# Altium schematic symbol library CRD25DA12N-FMC.SchLib: 141 symbols (part 3 of 5)
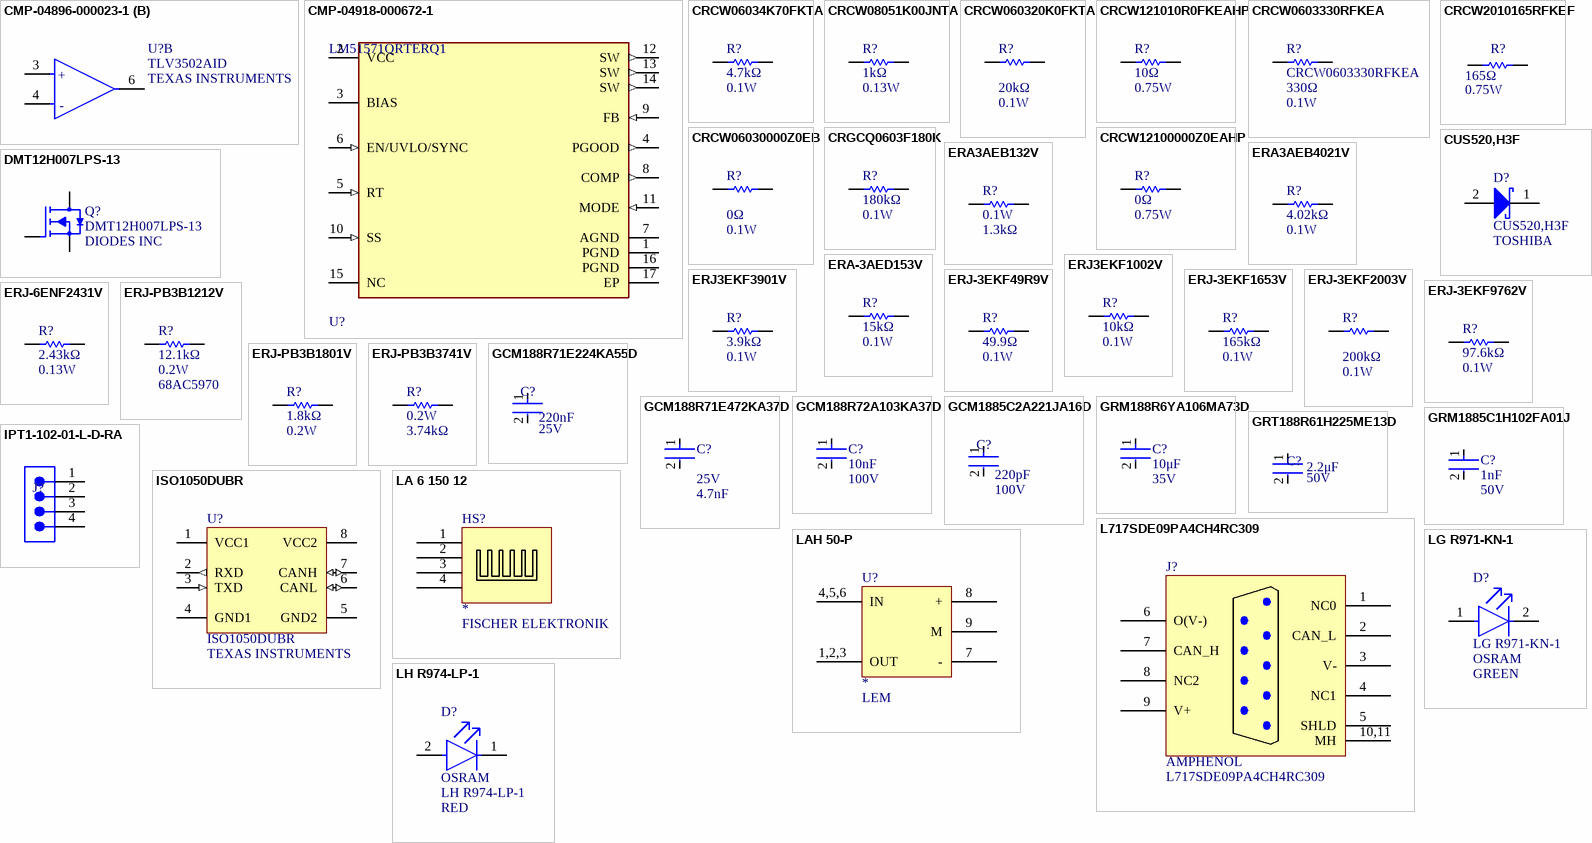
[diagram p5: symbols CMP-04896-000023-1 to LH R974-LP-1]

## ERJ-3EKF9762V
designator R?  Resistance: 97.6kΩ  Max Power Dissipation: 0.1W  (hidden comment: *)
Res Thick Film 0603 97.6K Ohm 1% 1/10W ±100ppm/°C Molded SMD Punched Carrier T/R; Manufacturer: Panasonic; Manufacturer Part Number: ERJ-3EKF9762V; Voltage Rating: 75V; Power Rating: 100mW; Voltage Rating (DC): 50V; Supplier 1: Newark; RoHS: Yes; Category: Chip SMD Resistors; Stock 1: 50000; Pricing 1: 5000=0.01600, 10000=0.01600, 20000=0.01600, 30000=0.01600, 50000=0.01400 (USD); Mount: Surface Mount; Case/Package: 0603; Contact Plating: Tin; Case Code (Metric): 1608; Case Code (Imperial): 0603; Min Operating Temperature: -55°C; Max Operating Temperature: 155°C; Tolerance: 1%; Resistor Type: Thick Film; Temperature Coefficient: 100ppm/°C; Packaging: Tape and Reel; Package Quantity: 1; Number of Terminations: 2; Termination: SMD/SMT; Features: Automotive AEC-Q200; Series: ERJ; Resistance Tolerance: 1%; Construction: Rectangular; Technology: THICK FILM; Length: 1.6mm; Width: 0.8mm; Height: 0.45mm; Depth: 0.8mm; Radiation Hardening: No; Reach SVHC Compliant: Yes; Military Standard: Not; RoHS Compliant: Yes; ComponentLink1URL: https://datasheet.ciiva.com/7937/1678782-7937451.pdf?src-supplier=Element14; ComponentLink1Description: https://datasheet.ciiva.com/7937/1678782-7937451.pdf?src-supplier=Element14; ComponentLink2URL: https://datasheet.ciiva.com/46420/1678782-46420270.pdf?src-supplier=Element14; ComponentLink2Description: https://datasheet.ciiva.com/46420/1678782-46420270.pdf?src-supplier=Element14; ComponentLink3URL: https://datasheet.ciiva.com/24023/aoa0000ce2-24023438.pdf?src-supplier=Mouser; ComponentLink3Description: https://datasheet.ciiva.com/24023/aoa0000ce2-24023438.pdf?src-supplier=Mouser; ComponentLink4URL: https://datasheet.ciiva.com/16770/70260748-16770055.pdf?src-supplier=Allied+Electronics; ComponentLink4Description: https://datasheet.ciiva.com/16770/70260748-16770055.pdf?src-supplier=Allied+Electronics; ComponentLink5URL: https://datasheet.ciiva.com/16762/70260748-16762984.pdf?src-supplier=Allied+Electronics; ComponentLink5Description: https://datasheet.ciiva.com/16762/70260748-16762984.pdf?src-supplier=Allied+Electronics; ComponentLink6URL: https://datasheet.ciiva.com/9186/aoa0000ce2-9186837.pdf?src-supplier=Avnet; ComponentLink6Description: https://datasheet.ciiva.com/9186/aoa0000ce2-9186837.pdf?src-supplier=Avnet; ComponentLink7URL: https://datasheet.ciiva.com/9186/aoa0000ce2-9186841.pdf?src-supplier=Avnet; ComponentLink7Description: https://datasheet.ciiva.com/9186/aoa0000ce2-9186841.pdf?src-supplier=Avnet; Supplier Part Number 1: 27AC5274
footprint FP-MCR03-IPC_B
pins: 1, 2

## ERJ-6ENF2431V
designator R?  Resistance: 2.43kΩ  Power Rating: 0.13W  (hidden comment: *)
Res Thick Film 0805 2.43K Ohm 1% 1/8W ±100ppm/°C Molded SMD Punched Carrier T/R; Manufacturer: Panasonic; Manufacturer Part Number: ERJ-6ENF2431V; Voltage Rating: 150V; Max Power Dissipation: 125mW; Supplier 1: Newark; RoHS: Yes; Category: Chip SMD Resistors; Stock 1: 30000; Pricing 1: 1=0.02500, 5000=0.02200, 10000=0.01700, 20000=0.01300 (USD); Mount: Surface Mount; Case/Package: 0805; Contact Plating: Tin; Case Code (Metric): 2012; Case Code (Imperial): 0805; Min Operating Temperature: -55°C; Max Operating Temperature: 155°C; Tolerance: 1%; Resistor Type: Thick Film; Temperature Coefficient: 100ppm/°C; Packaging: Tape and Reel; Package Quantity: 1; Number of Terminations: 2; Termination: SMD/SMT; Voltage Rating (DC): 150V; Features: Automotive AEC-Q200; Series: ERJ; Construction: Rectangular; Resistance Tolerance: 1%; Technology: THICK FILM; Length: 2mm; Width: 0.049inch; Height: 0.6mm; Depth: 1.25mm; Radiation Hardening: No; Reach SVHC Compliant: Yes; Military Standard: Not; Lead Free: Lead Free; RoHS Compliant: Yes; ComponentLink1URL: https://datasheet.ciiva.com/7763/1678782-7763735.pdf?src-supplier=Element14; ComponentLink1Description: https://datasheet.ciiva.com/7763/1678782-7763735.pdf?src-supplier=Element14; ComponentLink2URL: https://datasheet.ciiva.com/22681/1678782-22681333.pdf?src-supplier=Element14; ComponentLink2Description: https://datasheet.ciiva.com/22681/1678782-22681333.pdf?src-supplier=Element14; ComponentLink3URL: https://datasheet.ciiva.com/28594/1694929-28594725.pdf?src-supplier=Element14; ComponentLink3Description: https://datasheet.ciiva.com/28594/1694929-28594725.pdf?src-supplier=Element14; ComponentLink4URL: https://datasheet.ciiva.com/46441/1678782-46441274.pdf?src-supplier=Element14; ComponentLink4Description: https://datasheet.ciiva.com/46441/1678782-46441274.pdf?src-supplier=Element14; ComponentLink5URL: https://datasheet.ciiva.com/16773/70260748-16773928.pdf?src-supplier=Allied+Electronics; ComponentLink5Description: https://datasheet.ciiva.com/16773/70260748-16773928.pdf?src-supplier=Allied+Electronics; ComponentLink6URL: https://datasheet.ciiva.com/16783/70260748-16783546.pdf?src-supplier=Allied+Electronics; ComponentLink6Description: https://datasheet.ciiva.com/16783/70260748-16783546.pdf?src-supplier=Allied+Electronics; ComponentLink7URL: https://datasheet.ciiva.com/30086/aoa0000ce2-30086726.pdf?src-supplier=Onlinecomponents.com; ComponentLink7Description: https://datasheet.ciiva.com/30086/aoa0000ce2-30086726.pdf?src-supplier=Onlinecomponents.com; Supplier Part Number 1: 73AC7648
footprint FP-MCR10-IPC_A
footprint FP-MCR10-IPC_B
footprint FP-MCR10-IPC_C
footprint FP-MCR10-MFG
pins: 1, 2

## ERJ-PB3B1212V
designator R?  Resistance: 12.1kΩ  Max Power Dissipation: 0.2W  Supplier Part Number 1: 68AC5970  (hidden comment: *)
RES SMD 12.1K OHM 0.1% 1/5W 0603; Manufacturer: Panasonic; Manufacturer Part Number: ERJ-PB3B1212V; Temperature Coefficient: 50ppm/°C; Supplier 1: Newark; RoHS: Yes; Category: Chip SMD Resistors; Stock 1: 2027; Pricing 1: 1=0.02300, 25=0.02300, 50=0.02300, 100=0.02300, 250=0.02300, 500=0.02300, 1000=0.02300 (USD); Case/Package: 0603; Case Code (Metric): 1608; Case Code (Imperial): 0603; Min Operating Temperature: -55°C; Max Operating Temperature: 155°C; Packaging: Tape and Reel; Resistor Type: Thick Film; Number of Terminations: 2; Tolerance: 0.1%; Features: Automotive AEC-Q200; Length: 0.063inch; Width: 0.032inch; Height - Seated (Max): 0.022inch; ComponentLink1URL: https://industrial.panasonic.com/sa/system/files/data/download/catalog/id_fixed-resistors_e_2.pdf?src-supplier=Digi-Key; ComponentLink1Description: https://industrial.panasonic.com/sa/system/files/data/download/catalog/id_fixed-resistors_e_2.pdf?src-supplier=Digi-Key
footprint FP-MCR03-IPC_B
pins: 1, 2

## ERJ-PB3B1801V
designator R?  Resistance: 1.8kΩ  Max Power Dissipation: 0.2W  (hidden comment: *)
RES SMD 1.8K OHM 0.1% 1/5W 0603; Manufacturer: PANASONIC; Manufacturer Part Number: ERJ-PB3B1801V; Temperature Coefficient: 50ppm/°C; Value: 1.8kΩ; Supplier 1: Arrow Electronics; RoHS: Yes; Category: Chip SMD Resistors; Stock 1: 7475; Pricing 1: 1=0.24860, 10=0.21250, 25=0.15580, 100=0.08750, 250=0.07800, 500=0.04680, 1000=0.02760, 3000=0.02730, 6000=0.02700 (USD); Package: 0603; Case Code (Metric): 1608; Case Code (Imperial): 0603; Min Operating Temperature: -55°C; Max Operating Temperature: 155°C; Packaging: Tape and Reel; Resistor Type: Thick Film; Number of Terminations: 2; Tolerance: 0.1%; Features: Automotive AEC-Q200; Length: 0.063inch; Width: 0.032inch; Height - Seated (Max): 0.022inch; ComponentLink1URL: https://industrial.panasonic.com/sa/system/files/data/download/catalog/id_fixed-resistors_e_2.pdf?src-supplier=Digi-Key; ComponentLink1Description: https://industrial.panasonic.com/sa/system/files/data/download/catalog/id_fixed-resistors_e_2.pdf?src-supplier=Digi-Key; Supplier Part Number 1: ERJ-PB3B1801V
footprint FP-MCR03-IPC_B
pins: 1, 2

## ERJ-PB3B3741V
designator R?  Max Power Dissipation: 0.2W  Resistance: 3.74kΩ  (hidden comment: ERJ-PB3B3741V)
RES SMD 3.74K OHM 0.1% 1/5W 0603; Manufacturer: PANASONIC; Temperature Coefficient: 50ppm/°C; Supplier 1: Arrow Electronics; Manufacturer Part Number: ERJ-PB3B3741V; RoHS: Yes; Category: Chip SMD Resistors; Stock 1: 1328; Pricing 1: 1=0.04530, 10=0.01990, 100=0.01980 (USD); Package: 0603; Case Code (Metric): 1608; Case Code (Imperial): 0603; Min Operating Temperature: -55°C; Max Operating Temperature: 155°C; Packaging: Tape and Reel; Resistor Type: Thick Film; Number of Terminations: 2; Tolerance: 0.1%; Features: Automotive AEC-Q200; Length: 0.063inch; Width: 0.032inch; Height - Seated (Max): 0.022inch; ComponentLink1URL: https://industrial.panasonic.com/sa/system/files/data/download/catalog/id_fixed-resistors_e_2.pdf?src-supplier=Digi-Key; ComponentLink1Description: https://industrial.panasonic.com/sa/system/files/data/download/catalog/id_fixed-resistors_e_2.pdf?src-supplier=Digi-Key; Supplier Part Number 1: ERJ-PB3B3741V
footprint FP-MCR03-IPC_B
pins: 1, 2

## GCM188R71E224KA55D
designator C?  Capacitance: 220nF  Voltage: 25V  (hidden comment: *)
CAP CER 0.22UF 25V X7R 0603; Manufacturer: MURATA; Manufacturer Part Number: GCM188R71E224KA55D; Material: 4241ConductorMaterial; Tolerance: 10%; Supplier 1: Mouser; RoHS: Yes; Category: Ceramic Capacitors; Stock 1: 1572028; Pricing 1: 1=0.1, 10=0.052, 50=0.052, 100=0.027, 1000=0.017, 4000=0.012, 8000=0.01, 10000=0.01, 100000=0.009 (USD); Mount: Surface Mount; Case/Package: 0603; Case Code (Metric): 1608; Case Code (Imperial): 0603; Min Operating Temperature: -55°C; Max Operating Temperature: 125°C; Package Quantity: 1; Voltage Rating: 25V; Packaging: Tape and Reel; Dielectric: X7R; Termination: SMD/SMT; Series: GCM; Construction: Flat; Length: 1.6mm; Width: 0.031inch; Height: 0.8mm; Thickness: 0.035inch; Depth: 0.8mm; Ratings: AEC-Q200; Radiation Hardening: No; Lead Free: Lead Free; RoHS Compliant: Yes; ComponentLink1URL: https://datasheet.ciiva.com/18183/getdatasheetpartid-223900-18183612.pdf?src-supplier=Verical; ComponentLink1Description: https://datasheet.ciiva.com/18183/getdatasheetpartid-223900-18183612.pdf?src-supplier=Verical; ComponentLink2URL: https://datasheet.ciiva.com/16202/product-16202362.pdf?src-supplier=Future+Electronics; ComponentLink2Description: https://datasheet.ciiva.com/16202/product-16202362.pdf?src-supplier=Future+Electronics; ComponentLink3URL: https://datasheet.ciiva.com/134/product-134757.pdf?src-supplier=Digikey; ComponentLink3Description: https://datasheet.ciiva.com/134/product-134757.pdf?src-supplier=Digikey; Supplier Part Number 1: 81-GCM188R71E224K55D; Voltage Rating (DC): 25V
footprint FP-C0603C-CF-IPC_B
pins: 1, 2

## GCM188R71E472KA37D
designator C?  Voltage Rating: 25V  Capacitance: 4.7nF  (hidden comment: GCM188R71E472KA37D)
CAP CER 4700PF 25V X7R 0603; Manufacturer: MURATA; Tolerance: 10%; Value: 4.7nF; Supplier 1: Digi-Key; Manufacturer Part Number: GCM188R71E472KA37D; RoHS: Yes; Category: Ceramic Capacitors; Pricing 1: 16000=0.00902 (USD); Mount: Surface Mount; Package: 0603; Case Code (Imperial): 0603; Case Code (Metric): 1608; Min Operating Temperature: -55°C; Max Operating Temperature: 125°C; Dielectric: X7R; Packaging: Tape and Reel; Package Quantity: 4000; Termination: SMD/SMT; Voltage Rating (DC): 25V; Series: GCM; Construction: Flat; Length: 1.6mm; Width: 0.031inch; Height: 0.8mm; Thickness: 0.035inch; Depth: 0.8mm; Ratings: AEC-Q200; Radiation Hardening: No; RoHS Compliant: Yes; ComponentLink1URL: https://datasheet.ciiva.com/11620/product-11620165.pdf?src-supplier=Avnet; ComponentLink1Description: https://datasheet.ciiva.com/11620/product-11620165.pdf?src-supplier=Avnet; ComponentLink2URL: https://datasheet.ciiva.com/164/s0717e-164072.pdf?src-supplier=Digi-Key; ComponentLink2Description: https://datasheet.ciiva.com/164/s0717e-164072.pdf?src-supplier=Digi-Key; ComponentLink3URL: https://datasheet.ciiva.com/11620/product-11620167.pdf?src-supplier=Avnet; ComponentLink3Description: https://datasheet.ciiva.com/11620/product-11620167.pdf?src-supplier=Avnet; Supplier Part Number 1: 490-11959-2-ND
footprint FP-C0603C-CF-IPC_B
pins: 1, 2

## GCM188R72A103KA37D
designator C?  value 10nF  Voltage Rating: 100V  (hidden comment: *)
CAP CER 10000PF 100V X7R 0603; Manufacturer: MURATA; Manufacturer Part Number: GCM188R72A103KA37D; Material: 4241ConductorMaterial; Tolerance: 10%; Supplier 1: Mouser; RoHS: Yes; Category: Ceramic Capacitors; Stock 1: 588517; Pricing 1: 1=0.1, 10=0.037, 50=0.037, 100=0.019, 1000=0.012, 4000=0.011, 8000=0.009, 10000=0.009, 24000=0.008, 100000=0.007 (USD); Mount: Surface Mount; Case/Package: 0603; Case Code (Imperial): 0603; Case Code (Metric): 1608; Min Operating Temperature: -55°C; Max Operating Temperature: 125°C; Capacitance: 10nF; Packaging: Tape and Reel; Voltage Rating (DC): 100V; Package Quantity: 1; Dielectric: X7R; Termination: SMD/SMT; Voltage: 100V; Series: GCM; Construction: Flat; Length: 1.6mm; Width: 0.031inch; Height: 0.8mm; Thickness: 0.035inch; Depth: 0.8mm; Ratings: AEC-Q200; Radiation Hardening: No; Reach SVHC Compliant: No; Lead Free: Lead Free; RoHS Compliant: Yes; ComponentLink1URL: https://datasheet.ciiva.com/132/product-132908.pdf?src-supplier=Digikey; ComponentLink1Description: https://datasheet.ciiva.com/132/product-132908.pdf?src-supplier=Digikey; ComponentLink2URL: https://datasheet.ciiva.com/132/product-132907.pdf?src-supplier=Digikey; ComponentLink2Description: https://datasheet.ciiva.com/132/product-132907.pdf?src-supplier=Digikey; ComponentLink3URL: https://datasheet.ciiva.com/132/product-132909.pdf?src-supplier=Digikey; ComponentLink3Description: https://datasheet.ciiva.com/132/product-132909.pdf?src-supplier=Digikey; ComponentLink4URL: https://datasheet.ciiva.com/11786/0900766b80ef92d0-11786108.pdf?src-supplier=Rs; ComponentLink4Description: https://datasheet.ciiva.com/11786/0900766b80ef92d0-11786108.pdf?src-supplier=Rs; ComponentLink5URL: https://datasheet.ciiva.com/16497/product-16497251.pdf?src-supplier=Future+Electronics; ComponentLink5Description: https://datasheet.ciiva.com/16497/product-16497251.pdf?src-supplier=Future+Electronics; ComponentLink6URL: https://datasheet.ciiva.com/18183/getdatasheetpartid-178890-18183651.pdf?src-supplier=Verical; ComponentLink6Description: https://datasheet.ciiva.com/18183/getdatasheetpartid-178890-18183651.pdf?src-supplier=Verical; ComponentLink7URL: https://datasheet.ciiva.com/11619/product-11619719.pdf?src-supplier=Avnet; ComponentLink7Description: https://datasheet.ciiva.com/11619/product-11619719.pdf?src-supplier=Avnet; Supplier Part Number 1: 81-GCM188R72A103KA7D
footprint FP-C0603C-CF-IPC_B
pins: 1, 2

## GCM1885C2A221JA16D
designator C?  value 220pF  Voltage Rating: 100V  (hidden comment: *)
CAP CER 220PF 100V C0G/NP0 0603; Manufacturer: MURATA; Manufacturer Part Number: GCM1885C2A221JA16D; Material: 4241ConductorMaterial; Tolerance: 5%; Dielectric: C0G; Dissipation Factor: 0.01%; Temperature Coefficient: 30ppm/°C; Supplier 1: Mouser; RoHS: Yes; Category: Ceramic Capacitors; Stock 1: 78175; Pricing 1: 1=0.11, 10=0.052, 50=0.052, 100=0.031, 1000=0.023, 10000=0.018 (USD); Mount: Surface Mount; Case/Package: 0603; Case Code (Metric): 1608; Case Code (Imperial): 0603; Min Operating Temperature: -55°C; Max Operating Temperature: 125°C; Capacitance: 220pF; Package Quantity: 1; Packaging: Tape and Reel; Voltage Rating (DC): 100V; Termination: SMD/SMT; Voltage: 100V; Series: GCM; Construction: Flat; Length: 1.6mm; Width: 0.031inch; Height: 0.8mm; Thickness: 0.035inch; Depth: 0.8mm; Ratings: AEC-Q200; Radiation Hardening: No; Lead Free: Lead Free; RoHS Compliant: Yes; ComponentLink1URL: https://datasheet.ciiva.com/133/product-133699.pdf?src-supplier=Digikey; ComponentLink1Description: https://datasheet.ciiva.com/133/product-133699.pdf?src-supplier=Digikey; ComponentLink2URL: https://datasheet.ciiva.com/133/product-133700.pdf?src-supplier=Digikey; ComponentLink2Description: https://datasheet.ciiva.com/133/product-133700.pdf?src-supplier=Digikey; ComponentLink3URL: https://datasheet.ciiva.com/133/product-133701.pdf?src-supplier=Digikey; ComponentLink3Description: https://datasheet.ciiva.com/133/product-133701.pdf?src-supplier=Digikey; ComponentLink4URL: https://datasheet.ciiva.com/11605/product-11605111.pdf?src-supplier=Avnet; ComponentLink4Description: https://datasheet.ciiva.com/11605/product-11605111.pdf?src-supplier=Avnet; ComponentLink5URL: https://datasheet.ciiva.com/16508/s0717e-16508220.pdf?src-supplier=Future+Electronics; ComponentLink5Description: https://datasheet.ciiva.com/16508/s0717e-16508220.pdf?src-supplier=Future+Electronics; Supplier Part Number 1: 81-GCM1885C2A221J16D
footprint FP-C0603C-CF-IPC_B
pins: 1, 2

## GRM188R6YA106MA73D
designator C?  value 10μF  Voltage Rating: 35V  (hidden comment: *)
CAP CER 10UF 35V X5R 0603; Manufacturer: MURATA; Manufacturer Part Number: GRM188R6YA106MA73D; Material: 4241ConductorMaterial; Tolerance: 20%; Supplier 1: Mouser; RoHS: Yes; Category: Ceramic Capacitors; Stock 1: 250689; Pricing 1: 1=0.31, 10=0.165, 50=0.165, 100=0.099, 1000=0.076, 4000=0.067, 8000=0.06, 10000=0.06, 24000=0.058, 100000=0.049 (USD); Mount: Surface Mount; Case/Package: 0603; Case Code (Metric): 1608; Case Code (Imperial): 0603; Min Operating Temperature: -55°C; Max Operating Temperature: 85°C; Packaging: Cut Tape; Capacitance: 10μF; Voltage Rating (DC): 35V; Dielectric: X5R; Series: GRM; Length: 0.063inch; Width: 0.031inch; Height: 1mm; Thickness: 0.039inch; RoHS Compliant: Yes; ComponentLink1URL: https://datasheet.octopart.com/GRM188R6YA106MA73D-Murata-datasheet-149523261.pdf?src-supplier=Newark; ComponentLink1Description: https://datasheet.octopart.com/GRM188R6YA106MA73D-Murata-datasheet-149523261.pdf?src-supplier=Newark; ComponentLink2URL: http://search.murata.co.jp/Ceramy/image/img/A01X/G101/ENG/GRM188R6YA106MA73-01.pdf?src-supplier=Future+Electronics; ComponentLink2Description: http://search.murata.co.jp/Ceramy/image/img/A01X/G101/ENG/GRM188R6YA106MA73-01.pdf?src-supplier=Future+Electronics; ComponentLink3URL: http://search.murata.co.jp/Ceramy/image/img/A01X/G101/ENG/GRM188R6YA106MA73-01.pdf?src-supplier=Digikey; ComponentLink3Description: http://search.murata.co.jp/Ceramy/image/img/A01X/G101/ENG/GRM188R6YA106MA73-01.pdf?src-supplier=Digikey; ComponentLink4URL: https://www.murata.com/~/media/webrenewal/support/library/catalog/products/capacitor/mlcc/c02e.ashx?la=en-us&src-supplier=Digikey; ComponentLink4Description: https://www.murata.com/~/media/webrenewal/support/library/catalog/products/capacitor/mlcc/c02e.ashx?la=en-us&src-supplier=Digikey; ComponentLink5URL: https://datasheet.octopart.com/GRM188R6YA106MA73D-Murata-datasheet-86813743.pdf?src-supplier=Future+Electronics; ComponentLink5Description: https://datasheet.octopart.com/GRM188R6YA106MA73D-Murata-datasheet-86813743.pdf?src-supplier=Future+Electronics; ComponentLink6URL: http://search.murata.co.jp/Ceramy/image/img/A01X/G101/ENG/GRM188R6YA106MA73-01.pdf?src-supplier=Mouser; ComponentLink6Description: http://search.murata.co.jp/Ceramy/image/img/A01X/G101/ENG/GRM188R6YA106MA73-01.pdf?src-supplier=Mouser; ComponentLink7URL: https://datasheet.octopart.com/GRM188R6YA106MA73D-Murata-datasheet-165579666.pdf?src-supplier=TME; ComponentLink7Description: https://datasheet.octopart.com/GRM188R6YA106MA73D-Murata-datasheet-165579666.pdf?src-supplier=TME; ComponentLink8URL: http://search.murata.co.jp/Ceramy/image/img/A01X/G101/ENG/GRM188R6YA106MA73-01.pdf?src-supplier=TTI; ComponentLink8Description: http://search.murata.co.jp/Ceramy/image/img/A01X/G101/ENG/GRM188R6YA106MA73-01.pdf?src-supplier=TTI; Supplier Part Number 1: 81-GRM188R6YA106MA3D
footprint FP-C0603C-CF-IPC_B
pins: 1, 2

## GRM1885C1H102FA01J
designator C?  Capacitance: 1nF  Voltage Rating (DC): 50V  (hidden comment: *)
0603 1000 pF 50 V ±1% C0G Multilayer Ceramic Chip Capacitor; Manufacturer: Murata; Manufacturer Part Number: GRM1885C1H102FA01J; Supplier 1: Digi-Key; RoHS: Yes; Category: Ceramic Capacitors; Mount: Surface Mount; Case/Package: 0603; Case Code (Metric): 1608; Case Code (Imperial): 0603; Min Operating Temperature: -55°C; Max Operating Temperature: 125°C; Voltage Rating: 50V; Tolerance: 1%; Packaging: Tape and Reel; Package Quantity: 1; Dielectric: C0G; Termination: SMD/SMT; Series: GRM; Construction: Flat; Length: 1.6mm; Width: 0.031inch; Height: 0.8mm; Thickness: 0.035inch; Depth: 0.8mm; Radiation Hardening: No; Reach SVHC Compliant: Yes; Lead Free: Lead Free; RoHS Compliant: Yes; ComponentLink1URL: https://datasheet.ciiva.com/6264/partnumbering-e-01-6264155.pdf?src-supplier=Digi-Key; ComponentLink1Description: https://datasheet.ciiva.com/6264/partnumbering-e-01-6264155.pdf?src-supplier=Digi-Key; ComponentLink2URL: https://datasheet.ciiva.com/6264/partnumbering-e-01-6264153.pdf?src-supplier=Digi-Key; ComponentLink2Description: https://datasheet.ciiva.com/6264/partnumbering-e-01-6264153.pdf?src-supplier=Digi-Key; ComponentLink3URL: https://datasheet.ciiva.com/6264/partnumbering-e-01-6264158.pdf?src-supplier=Digi-Key; ComponentLink3Description: https://datasheet.ciiva.com/6264/partnumbering-e-01-6264158.pdf?src-supplier=Digi-Key; ComponentLink4URL: https://datasheet.ciiva.com/11621/c02e-11621693.pdf?src-supplier=Avnet; ComponentLink4Description: https://datasheet.ciiva.com/11621/c02e-11621693.pdf?src-supplier=Avnet; Supplier Part Number 1: 490-6377-2-ND
footprint FP-C0603C-CF-IPC_B
pins: 1, 2

## GRT188R61H225ME13D
designator C?  Voltage Rating: 50V  Capacitance: 2.2μF  (hidden comment: GRT188R61H225ME13D)
CAP CER 2.2UF 50V X5R 0603; Manufacturer: MURATA; Tolerance: 20%; Value: 2.2μF; Supplier 1: Arrow Electronics; Manufacturer Part Number: GRT188R61H225ME13D; RoHS: Yes; Category: Ceramic Capacitors; Stock 1: 3937; Pricing 1: 1=0.29580, 10=0.20370, 25=0.18090, 100=0.12380, 250=0.12190, 500=0.10920, 1000=0.07700, 3000=0.07630 (USD); Mount: Surface Mount; Package: 0603; Case Code (Metric): 1608; Case Code (Imperial): 0603; Min Operating Temperature: -55°C; Max Operating Temperature: 85°C; Packaging: Tape and Reel; Length: 0.063inch; Width: 0.031inch; Thickness: 0.035inch; Ratings: AEC-Q200; RoHS Compliant: Yes; ComponentLink1URL: http://search.murata.co.jp/Ceramy/image/img/A01X/G101/ENG/GRT188R61H225ME13-01.pdf?src-supplier=Digi-Key; ComponentLink1Description: http://search.murata.co.jp/Ceramy/image/img/A01X/G101/ENG/GRT188R61H225ME13-01.pdf?src-supplier=Digi-Key; ComponentLink2URL: https://search.murata.co.jp/Ceramy/image/img/A01X/G101/ENG/GRT188R61H225ME13-01.pdf?src-supplier=Digi-Key; ComponentLink2Description: https://search.murata.co.jp/Ceramy/image/img/A01X/G101/ENG/GRT188R61H225ME13-01.pdf?src-supplier=Digi-Key; Supplier Part Number 1: GRT188R61H225ME13D
footprint FP-C0603C-CF-IPC_B
pins: 1, 2
1 alternate drawing of the same symbol

## IPT1-102-01-L-D-RA
designator J?  (value not drawn)
CONN HEADER R/A 4POS 2.54MM; Manufacturer: SAMTEC; Manufacturer Part Number: IPT1-102-01-L-D-RA; Value: N/A; Package: N/A
footprint SAMTEC_IPT1-102-01-L-D-RA
pins: 1, 2, 3, 4

## ISO1050DUBR
designator U?  Manufacturer Print: TEXAS INSTRUMENTS
Isolated CAN Transceiver, -55 to 105 degC, 8-pin SOP (DUB), Green (RoHS & no Sb/Br); Rating: Catalog; Isolated: Yes; Drivers Per Package: 1; Manufacturer: Texas Instruments; PackageReference: DUB0008A; PartNumber: ISO1050DUBR; ComponentLink2Description: Package Specification; ComponentLink1Description: Datasheet; Mounting Technology: Surface Mount; ComponentLink1URL: http://www.ti.com/general/docs/lit/getliterature.tsp?genericPartNumber=ISO1050&fileType=pdf; ComponentLink2URL: http://www.ti.com/litv/pdf/mpds247b; Eco-Plan: Green (RoHS & no Sb/Br); PackageDescription: 8-Pin Small Outline Package 2.54 mm Pitch; PackageVersion: revC, May-2006; SubFamily: CAN; DatasheetVersion: SLLS983E; Supplier 1: Arrow Electronics; Supplier Part Number 1: ISO1050DUBR
footprint DUB0008A_M (SOP, 8-Leads, Body 6.7x9.6mm, Pitch 2.54mm, IPC Low Density)
footprint DUB0008A_L (SOP, 8-Leads, Body 6.7x9.6mm, Pitch 2.54mm, IPC High Density)
footprint DUB0008A_N (SOP, 8-Leads, Body 6.7x9.6mm, Pitch 2.54mm, IPC Medium Density)
pins: 1 VCC1 (power), 2 RXD (out), 3 TXD (in), 4 GND1 (power), 5 GND2 (power), 6 CANL (io), 7 CANH (io), 8 VCC2 (power)

## L717SDE09PA4CH4RC309
designator J?  Manufacturer: AMPHENOL  (hidden comment: L717SDE09PA4CH4RC309)
CONN D-SUB PLUG 9POS R/A SLDR; Number of Terminals/Pins: 9; Connector Type: D-Sub,Plug; Voltage Rating: 250V; Current Rating: 5A; Number of Ports: 1; Pitch: 2.74mm; Value: N/A; Package: N/A; Supplier 1: Allied Electronics; RoHS: Yes; Category: Uncategorized; Mount: Through Hole; Contact Plating: Gold; Contact Material: Brass; Color: Black; Housing Material: Thermoplastic; Min Operating Temperature: -55°C; Max Operating Temperature: 155°C; Number of Rows: 2; Packaging: Tray; Number of Positions: 9; Termination: Solder; Max Supply Voltage (AC): 250V; Number of Contacts: 9; Orientation: Right Angle; Series: SD; Contact Type: Signal; Length: 30.81mm; Depth: 20.3mm; Lead Free: Lead Free; RoHS Compliant: Yes; ComponentLink1URL: https://datasheet.ciiva.com/16443/l717sde09pa4ch4rc309-16443356.pdf?src-supplier=Future+Electronics; ComponentLink1Description: https://datasheet.ciiva.com/16443/l717sde09pa4ch4rc309-16443356.pdf?src-supplier=Future+Electronics; ComponentLink2URL: https://datasheet.ciiva.com/12662/l717sde09pa4ch4rc309-12662371.pdf?src-supplier=Mouser; ComponentLink2Description: https://datasheet.ciiva.com/12662/l717sde09pa4ch4rc309-12662371.pdf?src-supplier=Mouser; ComponentLink3URL: https://datasheet.ciiva.com/16914/70145027-16914009.pdf?src-supplier=Allied+Electronics; ComponentLink3Description: https://datasheet.ciiva.com/16914/70145027-16914009.pdf?src-supplier=Allied+Electronics; ComponentLink4URL: https://datasheet.ciiva.com/16748/sd-hdh808-16748518.pdf?; ComponentLink4Description: https://datasheet.ciiva.com/16748/sd-hdh808-16748518.pdf?; Supplier Part Number 1: 70145033; Manufacturer Part Number: L717SDE09PA4CH4RC309
footprint L717SDE09PA4CH4RC309 (CONN D-SUB PLUG 9POS R/A SLDR)
pins: 1 NC0, 2 CAN_L, 3 V-, 4 NC1, 5 SHLD, 6 O(V-), 7 CAN_H, 8 NC2, 9 V+, 10,11 MH

## LA 6 150 12
designator HS?  Parameter 1: FISCHER ELEKTRONIK
FISCHER ELEKTRONIK         LA 6/150 12V             Fan / Force Cooled Heat Sink, Hollow Fin Aggregate, 0.175 C/W, 74 mm, 62 mm, 150 mm, 56 m/h; Natural Thermal Resistance: 0.175°C/W; Power Consumption: 2.9W; Supplier 1: Newark; Manufacturer: Fischer Elektronik; Manufacturer Part Number: LA6/15012V; RoHS: Yes; Category: Uncategorized; Stock 1: 135; Pricing 1: 1=128.57000, 10=109.67000, 25=105.17000, 50=100.26000, 100=91.40000, 250=79.15000 (USD); Weight: 66g; Material: Aluminium; Length: 150mm; Reach SVHC Compliant: Yes; ComponentLink1URL: https://datasheet.ciiva.com/14098/fmfischer-lufteraggregat-la6-en-14098709.pdf?src-supplier=Distrelec; ComponentLink1Description: https://datasheet.ciiva.com/14098/fmfischer-lufteraggregat-la6-en-14098709.pdf?src-supplier=Distrelec; ComponentLink2URL: https://datasheet.ciiva.com/1609/17634-1609751.pdf?src-supplier=Element14; ComponentLink2Description: https://datasheet.ciiva.com/1609/17634-1609751.pdf?src-supplier=Element14; Supplier Part Number 1: 42M1958
footprint LA 6 150 12
pins: 1, 2, 3, 4

## LAH 50-P
designator U?  Manufacturer Print: LEM
SENSOR CURRENT HALL 50A AC/DC; Manufacturer Part Number: LAH 50-P; Frequency: 200kHz; Number of Channels: 1; Response Time: 0.5us; Max Supply Current: 35mA; Polarity: Bidirectional; Linearity: 0.15%; Accuracy: 0.25%; Operating Supply Voltage: 15V; Secondary Current: 25mA; Overall Height: 21mm; Overall Depth: 14.93mm; Supplier 1: Newark; Manufacturer: LEM; RoHS: Yes; Category: Current Sensors; Stock 1: 776; Pricing 1: 1=22.98000, 10=21.60000, 25=20.67000 (USD); Mount: Through Hole,PCB; Case/Package: Module; Min Operating Temperature: -25°C; Max Operating Temperature: 85°C; Package Quantity: 12; Packaging: Bulk; Current Sensing: 50A; Series: LAH; Current Rating: 50A; Width: 33.3mm; Height: 21mm; RoHS Compliant: Yes; Lead Free: Lead Free; Reach SVHC Compliant: Yes; ComponentLink1URL: https://datasheet.ciiva.com/2812/lah2050-p20e-2812498.pdf?src-supplier=Digi-Key; ComponentLink1Description: https://datasheet.ciiva.com/2812/lah2050-p20e-2812498.pdf?src-supplier=Digi-Key; ComponentLink2URL: https://datasheet.ciiva.com/3327/lah50p-eng-tds-3327447.pdf?src-supplier=Distrelec; ComponentLink2Description: https://datasheet.ciiva.com/3327/lah50p-eng-tds-3327447.pdf?src-supplier=Distrelec; Supplier Part Number 1: 44W8442; Value: N/A; Package: N/A
footprint LAH 50-P
pins: 1,2,3 OUT, 4,5,6 IN, 7 -, 8 +, 9 M

## LG R971-KN-1
designator D?  Manufacturer: OSRAM  Illumination Color: GREEN
LED Uni-Color Green 572nm 2-Pin Chip 0805(2012Metric) T/R; Lens Color: White; Forward Current: 25mA; Forward Voltage: 2.2V; Lens Style: Diffused,Flat,Colorless,Rectangular; Luminous Intensity: 45mcd; Viewing Angle: 160°; Test Current: 20mA; Dominant Wavelength: 570nm; Lens Transparency: Diffused; Luminous Flux: 0.1lm; Number of Elements: 1; Power Dissipation: 65mW; Reverse Voltage: 12V; Lens Size: 1.25mm; Supplier 1: Future Electronics; Manufacturer Part Number: LGR971-KN-1; RoHS: Yes; Category: Uncategorized; Stock 1: 128000; Pricing 1: 16000=0.03330, 32000=0.03250, 48000=0.03210, 64000=0.03180, 80000=0.03080 (USD); Mount: Surface Mount; Case/Package: 0805; Number of Pins: 2; Color: Green; Case Code (Metric): 2012; Case Code (Imperial): 0805; Min Operating Temperature: -30°C; Max Operating Temperature: 85°C; Packaging: Tape and Reel; Package Quantity: 1; Number of LEDs: 1; Series: CHipLED; Length: 2.1mm; Width: 1.25mm; Height: 0.9mm; Depth: 1.35mm; Radiation Hardening: No; RoHS Compliant: Yes; ComponentLink1URL: https://datasheet.ciiva.com/4688/g-r971-221296-4688589.pdf?src-supplier=Mouser; ComponentLink1Description: https://datasheet.ciiva.com/4688/g-r971-221296-4688589.pdf?src-supplier=Mouser; ComponentLink2URL: https://datasheet.ciiva.com/15198/getdatasheetpartid-233880-15198360.pdf?src-supplier=Verical; ComponentLink2Description: https://datasheet.ciiva.com/15198/getdatasheetpartid-233880-15198360.pdf?src-supplier=Verical; ComponentLink3URL: https://datasheet.ciiva.com/15198/getdatasheetpartid-462214-15198395.pdf?src-supplier=Verical; ComponentLink3Description: https://datasheet.ciiva.com/15198/getdatasheetpartid-462214-15198395.pdf?src-supplier=Verical; ComponentLink4URL: https://datasheet.ciiva.com/14918/00078860-0-14918605.pdf?src-supplier=Digi-Key; ComponentLink4Description: https://datasheet.ciiva.com/14918/00078860-0-14918605.pdf?src-supplier=Digi-Key; ComponentLink5URL: https://datasheet.ciiva.com/14918/00078860-0-14918604.pdf?src-supplier=Digi-Key; ComponentLink5Description: https://datasheet.ciiva.com/14918/00078860-0-14918604.pdf?src-supplier=Digi-Key; ComponentLink6URL: https://datasheet.ciiva.com/14918/00078860-0-14918606.pdf?src-supplier=Digi-Key; ComponentLink6Description: https://datasheet.ciiva.com/14918/00078860-0-14918606.pdf?src-supplier=Digi-Key; Supplier Part Number 1: 1152237
footprint FP-LH_R974-MFG
pins: 1 A, 2 C

## LH R974-LP-1
designator D?  Manufacturer: OSRAM  Color: RED  (hidden comment: LH R974-LP-1)
LED RED DIFFUSED 0805 SMD; Number of Elements: 1; Forward Voltage: 2.6V; Viewing Angle: 160°; Reverse Voltage: 5V; Test Current: 20mA; Dominant Wavelength: 645nm; Forward Current: 30mA; Luminous Intensity: 15mcd; Depth: 1.35mm; Min Operating Temperature: -30°C; Length: 2.1mm; Max Operating Temperature: 85°C; Radiation Hardening: No; Packaging: Tape and Reel; Number of Pins: 2; Mount: Surface Mount; Lens Style: Diffused; Manufacturer Part Number: LH R974-LP-1
footprint FP-LTST-C171GKT-MFG
pins: 1 C, 2 A

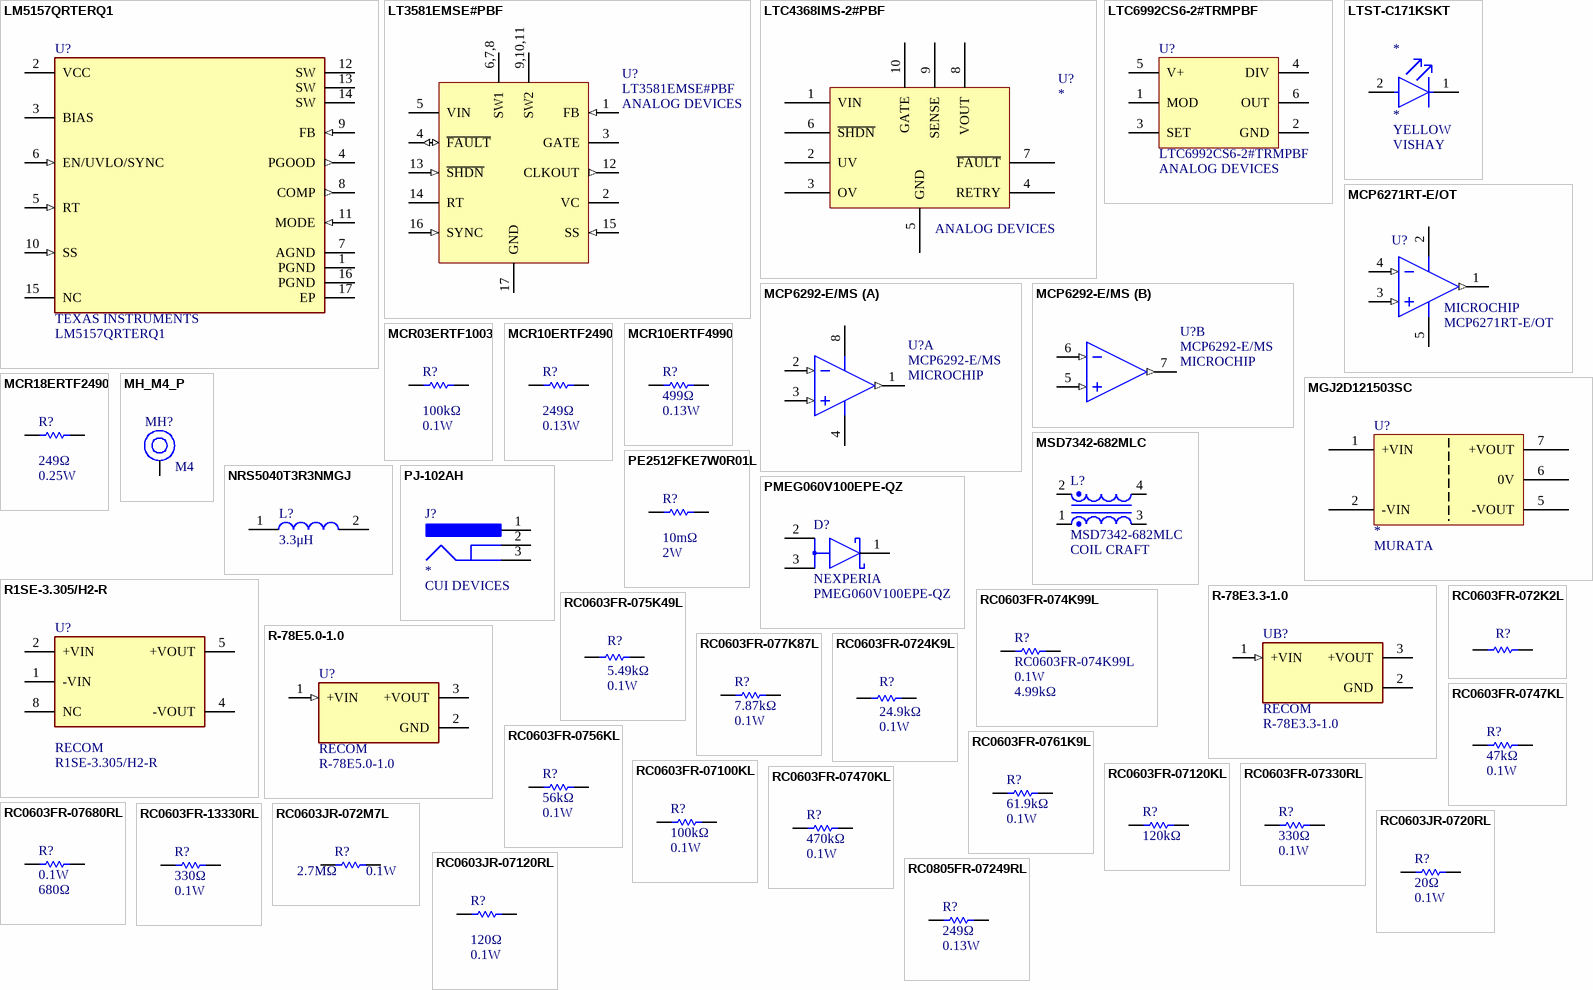
[diagram p2: symbols LM5157QRTERQ1 to RC0805FR-07249RL]

## LM5157QRTERQ1
designator U?  Manufacturer: TEXAS INSTRUMENTS  Manufacturer Part Number: LM5157QRTERQ1  (hidden comment: *)
IC REG MULT CONFG ADJ 6.5A 16QFN; Supplier 1: Mouser; RoHS: No; Category: Voltage Regulators - Switching; Stock 1: 10233; Pricing 1: 1=4.45, 10=3.79, 50=3.79, 100=3.28, 250=3.11, 500=2.79, 1000=2.36, 3000=2.29, 10000=2.29 (USD); RoHS Compliant: Yes; Case/Package: 16-WFQFN; Value: N/A; Supplier Part Number 1: 595-LM5157QRTERQ1
footprint FP-RTE0016K-IPC_A
footprint FP-RTE0016K-IPC_B
footprint FP-RTE0016K-IPC_C
footprint FP-RTE0016K-MFG
pins: 1 PGND (power), 2 VCC (power), 3 BIAS (power), 4 PGOOD (out), 5 RT (in), 6 EN/UVLO/SYNC (in), 7 AGND (power), 8 COMP (out), 9 FB (in), 10 SS (in), 11 MODE (in), 12 SW, 13 SW, 14 SW, 15 NC, 16 PGND (power), 17 EP (power)

## LT3581EMSE#PBF
designator U?  Manufacturer Print: ANALOG DEVICES
IC REG MULTI CONFG ADJ 16MSOP; Number of Outputs: 1; Frequency Adjust Range: Up - 2.5MHz; RoHS: TRUE; PackageDescription: 16-Pin Plastic MSOP, Exposed Die Pad, Body 4.039 x 3 mm, Pitch 0.5 mm; Mounting Technology: Surface Mount; ComponentLink3URL: http://cds.linear.com/docs/en/packaging/05081667_F_MSE16.pdf; PackageReference: MSE-16; ComponentLink2Description: Datasheet; Manufacturer: ANALOG DEVICES; ComponentLink3Description: Package Specification; ComponentLink1Description: Manufacturer URL; Manufacturer Part Number: LT3581EMSE#PBF; ComponentLink1URL: http://www.linear.com/; ComponentLink2URL: http://cds.linear.com/docs/en/datasheet/3581f.pdf; PackageVersion: Rev. F, 05/2013; Supplier 1: Newark; Supplier Part Number 1: 51AK8743; Package: 16-TFSOP
footprint LT-MSE-16-EDP_L (SOP, 16-Leads, Body 4.1x3.1mm, Pitch 0.5mm, Thermal Pad 2.95x1.76mm, IPC High Density)
footprint LT-MSE-16-EDP_N (SOP, 16-Leads, Body 4.1x3.1mm, Pitch 0.5mm, Thermal Pad 2.95x1.76mm, IPC Medium Density)
footprint LT-MSE-16-EDP_M (SOP, 16-Leads, Body 4.1x3.1mm, Pitch 0.5mm, Thermal Pad 2.95x1.76mm, IPC Low Density)
pins: 1 FB (in) "Positive and Negative Feedback Pin. For a Boost or Inverting Converter, tie a resistor from the FB pin to VOUT according to the following equations.", 2 VC "Error Amplifier Output Pin. Tie external compensation network to this pin.", 3 GATE (hiz) "PMOS Gate Drive Pin. The GATE pin is a pull-down current source, used to drive the gate of an external PMOS for output short circuit protection or output disconnect. The GATE pin current increases linearly with the SS (See Datasheet)", 4 ~{FAULT} (io) "Fault Indication Pin. This active low, bidirectional pin can either be pulled low (below 750mV) by an external source, or internally by the chip to indicate a fault. When pulled low, this pin causes the power switches to (See Datasheet)", 5 VIN (power) "Input Supply Pin. Must be locally bypassed.", 6,7,8 SW1 "Master Switch Pin. This is the collector of the internal master NPN power switch. Minimize the metal trace area connected to this pin to minimize EMI.", 9,10,11 SW2 "Slave Switch Pin. This is the collector of the internal slave NPN power switch. Minimize the metal trace area connected to this pin to minimize EMI.", 12 CLKOUT (out) "Clock Output Pin. Use this pin to synchronize one or more other compatible switching regulator ICs to the LT3581. The clock that this pin outputs runs at the same frequency as the internal oscillator of the part or as the (See Datasheet)", 13 ~{SHDN} (in) "Shutdown Pin. In conjunction with the UVLO (undervoltage lockout) circuit, this pin is used to enable/disable the chip and restart the soft-start sequence. Drive below 300mV to disable the chip. Drive above 1.33V (typical) (See Datasheet)", 14 RT "Timing Resistor Pin. Adjusts the LT3581’s switching frequency. Place a resistor from this pin to ground to set the frequency to a fixed free running level. Do not float this pin.", 15 SS (in) "Soft-Start Pin. Place a soft-start capacitor here. Upon start-up, the SS pin will be charged by a (nominally) 250k resistor to about 2.1V. During a fault, the SS pin will be slowly charged up and eventually discharged as (See Datasheet)", 16 SYNC (in) "To synchronize the switching frequency to an outside clock, simply drive this pin with a clock. The high voltage level of the clock must exceed 1.3V, and the low level must be less than 0.4V. Drive this pin to less than 0.4V (See Datasheet)", 17 GND (power) "Ground. Exposed pad must be soldered directly to local ground plane."

## LTC4368IMS-2#PBF
designator U?  Manufacturer Print: ANALOG DEVICES
LTC4368 - 100V UV/OV and Reverse Protection Controller with Bidirectional Circuit Breaker; Manufacturer: Analog Devices / Linear Technology; Manufacturer Part Number: LTC4368IMS-2#PBF; Supplier 1: Digi-Key; RoHS: Yes; Category: Power Management ICs; Pricing 1: 1=6.69000, 10=6.03900, 25=5.75840, 100=5.00000, 250=4.77528, 500=4.35396, 1000=3.97500 (USD); ComponentLink1URL: http://www.linear.com/docs/57622?src-supplier=Digi-Key; ComponentLink1Description: http://www.linear.com/docs/57622?src-supplier=Digi-Key; Supplier Part Number 1: 505-LTC4368IMS-2#PBF-ND
footprint SOP50P490X110-10N
pins: 1 VIN, 2 UV, 3 OV, 4 RETRY, 5 GND, 6 ~{SHDN}, 7 ~{FAULT}, 8 VOUT, 9 SENSE, 10 GATE

## LTC6992CS6-2#TRMPBF
designator U?  MANUFACTURER PRINT: ANALOG DEVICES
Silicon Oscillator 0.00000381MHz to 1MHz CMOS 6-Pin TSOT-23 Tape and Reel; Manufacturer: Analog Devices / Linear Technology; Frequency: 3.81Hz; Min Supply Voltage: 2.25V; Max Supply Voltage: 5.5V; Number of Timers/Counters: 1; Operating Supply Current: 365uA; Supplier 1: Digi-Key; Manufacturer Part Number: LTC6992CS6-2#TRMPBF; RoHS: Yes; Category: Clock and Timing; Pricing 1: 1=5.53000, 10=4.97000, 25=4.69840, 100=4.07200, 250=3.86316 (USD); Mount: Surface Mount; Case/Package: SOT-23-6; Number of Pins: 6; Min Operating Temperature: 0°C; Max Operating Temperature: 70°C; Packaging: Cut Tape; Package Quantity: 1; Series: TimerBlox®; Length: 2.9mm; Depth: 1.75mm; Reach SVHC Compliant: Yes; RoHS Compliant: Yes; ComponentLink1URL: https://datasheet.ciiva.com/1233/29337-1233009.pdf?src-supplier=Digi-Key; ComponentLink1Description: https://datasheet.ciiva.com/1233/29337-1233009.pdf?src-supplier=Digi-Key; ComponentLink2URL: https://datasheet.ciiva.com/1233/29337-1233010.pdf?src-supplier=Digi-Key; ComponentLink2Description: https://datasheet.ciiva.com/1233/29337-1233010.pdf?src-supplier=Digi-Key; ComponentLink3URL: https://datasheet.ciiva.com/1233/29337-1233011.pdf?src-supplier=Digi-Key; ComponentLink3Description: https://datasheet.ciiva.com/1233/29337-1233011.pdf?src-supplier=Digi-Key; ComponentLink4URL: https://datasheet.ciiva.com/1142/1441932-1142139.pdf?src-supplier=Farnell; ComponentLink4Description: https://datasheet.ciiva.com/1142/1441932-1142139.pdf?src-supplier=Farnell; ComponentLink5URL: https://datasheet.ciiva.com/1142/1441932-1142140.pdf?src-supplier=Farnell; ComponentLink5Description: https://datasheet.ciiva.com/1142/1441932-1142140.pdf?src-supplier=Farnell; ComponentLink6URL: https://datasheet.ciiva.com/1139/1642034-1139621.pdf?src-supplier=Element14; ComponentLink6Description: https://datasheet.ciiva.com/1139/1642034-1139621.pdf?src-supplier=Element14; ComponentLink7URL: https://datasheet.ciiva.com/48709/001253668-da-01-en-ic-osc-ltc6992cs6-2-trmpbf-tsot-23-6-ltc-48709100.pdf?src-supplier=Conrad; ComponentLink7Description: https://datasheet.ciiva.com/48709/001253668-da-01-en-ic-osc-ltc6992cs6-2-trmpbf-tsot-23-6-ltc-48709100.pdf?src-supplier=Conrad; Supplier Part Number 1: 505-LTC6992CS6-2#TRMPBFDKR-ND
footprint SOT95P280X100-6N
pins: 1 MOD, 2 GND, 3 SET, 4 DIV, 5 V+, 6 OUT

## LTST-C171KSKT
designator *  Color Print: YELLOW  Manufacturer Print: VISHAY
LED YELLOW CLEAR 0805 SMD; Manufacturer: Vishay Lite-On; Manufacturer Part Number: LTST-C171KSKT; Lens Color: Colorless; Number of LEDs: 1; Reverse Voltage: 5V; Viewing Angle: 130°; Lens Style: Diffused,Colorless,Rectangular,Clear; Luminous Intensity: 50mcd; Forward Voltage: 2V; Dominant Wavelength: 587nm; Test Current: 20mA; Wavelength: 588nm; Forward Current: 30mA; Max Power Dissipation: 75mW; Supplier 1: Rs; RoHS: Yes; Category: LEDs; Stock 1: 850; Mount: Surface Mount; Case/Package: 0805; Number of Pins: 2; Color: Yellow; Case Code (Metric): 2012; Case Code (Imperial): 0805; Min Operating Temperature: -55°C; Max Operating Temperature: 85°C; Package Quantity: 1; Packaging: Tape and Reel; Lens Transparency: Clear; Series: CHIPLED 0805; Illumination Color: Yellow; Power Rating: 75mW; Number of Elements: 1; Power Dissipation: 75mW; Length: 2mm; Width: 1.25mm; Height: 0.8mm; Depth: 1.25mm; Radiation Hardening: No; Lead Free: Lead Free; RoHS Compliant: Yes; ComponentLink1URL: https://datasheet.ciiva.com/19466/2075639-19466196.pdf?src-supplier=Jameco; ComponentLink1Description: https://datasheet.ciiva.com/19466/2075639-19466196.pdf?src-supplier=Jameco; ComponentLink2URL: https://datasheet.ciiva.com/12403/lite-on-ltst-c171kskt-190118-12403721.pdf?src-supplier=Mouser; ComponentLink2Description: https://datasheet.ciiva.com/12403/lite-on-ltst-c171kskt-190118-12403721.pdf?src-supplier=Mouser; ComponentLink3URL: https://datasheet.ciiva.com/16200/lite-on20ltst-c171kskt-16200102.pdf?src-supplier=Future+Electronics; ComponentLink3Description: https://datasheet.ciiva.com/16200/lite-on20ltst-c171kskt-16200102.pdf?src-supplier=Future+Electronics; ComponentLink4URL: https://datasheet.ciiva.com/15118/getdatasheetpartid-233685-15118145.pdf?src-supplier=Verical; ComponentLink4Description: https://datasheet.ciiva.com/15118/getdatasheetpartid-233685-15118145.pdf?src-supplier=Verical; ComponentLink5URL: https://datasheet.ciiva.com/11774/0900766b80dc029a-11774587.pdf?src-supplier=Rs; ComponentLink5Description: https://datasheet.ciiva.com/11774/0900766b80dc029a-11774587.pdf?src-supplier=Rs; ComponentLink6URL: https://datasheet.ciiva.com/2110/s-110-ltst-c171kskt-2110148.pdf?src-supplier=Digi-Key; ComponentLink6Description: https://datasheet.ciiva.com/2110/s-110-ltst-c171kskt-2110148.pdf?src-supplier=Digi-Key; ComponentLink7URL: https://datasheet.ciiva.com/2110/s-110-ltst-c171kskt-2110147.pdf?src-supplier=Digi-Key; ComponentLink7Description: https://datasheet.ciiva.com/2110/s-110-ltst-c171kskt-2110147.pdf?src-supplier=Digi-Key; ComponentLink8URL: https://datasheet.ciiva.com/2110/s-110-ltst-c171kskt-2110149.pdf?src-supplier=Digi-Key; ComponentLink8Description: https://datasheet.ciiva.com/2110/s-110-ltst-c171kskt-2110149.pdf?src-supplier=Digi-Key; Supplier Part Number 1: 6920950
footprint FP-LTST-C171GKT-MFG-YELLOW
pins: 1 C, 2 A

## MCP6271RT-E/OT
designator U?  Manufacturer: MICROCHIP  (hidden comment: MCP6271RT-E/OT)
IC OPAMP GP 1 CIRCUIT SOT23-5; Value: N/A; Case/Package: SOT-23-5; Manufacturer Part Number: MCP6271RT-E/OT
footprint ADI-UJ-5_L (SOT23, 5-Leads, Body 2.9x1.6mm, Pitch 0.95mm, IPC High Density)
footprint ADI-UJ-5_N (SOT23, 5-Leads, Body 2.9x1.6mm, Pitch 0.95mm, IPC Medium Density)
footprint ADI-UJ-5_M (SOT23, 5-Leads, Body 2.9x1.6mm, Pitch 0.95mm, IPC Low Density)
pins: 1 OUT (out), 2 +V (power), 3 +IN (in), 4 -IN (in), 5 -V (power)

## MCP6292-E/MS
designator U?  Manufacturer Print: MICROCHIP
Microchip MCP6292-E/MS; Dual Op Amp; 10MHz CMOS; Rail to Rail; 3V; 5V; 8-Pin MSOP; Number of Channels: 2; Max Supply Voltage: 5.5V; Slew Rate: 7V/µs; Common Mode Rejection Ratio: 70dB; Min Supply Voltage: 2.4V; Voltage Gain: 110dB; Output Current: 25mA; Nominal Supply Current: 1mA; Input Bias Current: 1pA; Input Offset Voltage (Vos): 3mV; Amplifier Type: GENERAL PURPOSE; Input Offset Voltage-Max: 5mV; Supplier 1: Newark; Manufacturer: Microchip; Manufacturer Part Number: MCP6292-E/MS; RoHS: Yes; Category: Amplifiers - Op Amps, Buffer, Instrumentation; Stock 1: 1446; Pricing 1: 1=1.08000, 10=0.99600, 25=0.91100, 50=0.86900, 100=0.82600 (USD); Mount: Surface Mount; Case/Package: MSOP; Number of Pins: 8; Min Operating Temperature: -40°C; Max Operating Temperature: 125°C; Unity Gain Bandwidth Product: 10MHz; Packaging: Rail/Tube; Bandwidth: 10MHz; Number of Circuits: 2; Gain Bandwidth Product: 10MHz; Number of Elements: 2; Power Supply Rejection Ratio (PSRR): 70dB; Number of Amplifiers: 2; Supply Current: 1mA; Technology: CMOS; Package Quantity: 100; Operating Supply Current: 1mA; Output Current per Channel: 25mA; Slew Rate-Nom: 7V/µs; Length: 3mm; Width: 3mm; Height: 0.85mm; Radiation Hardening: No; Reach SVHC Compliant: Yes; Lead Free: Lead Free; RoHS Compliant: Yes; ComponentLink1URL: https://datasheet.ciiva.com/8078/809135-8078950.pdf?src-supplier=Element14; ComponentLink1Description: https://datasheet.ciiva.com/8078/809135-8078950.pdf?src-supplier=Element14; ComponentLink2URL: https://datasheet.ciiva.com/11710/21812e-11710232.pdf?src-supplier=Avnet; ComponentLink2Description: https://datasheet.ciiva.com/11710/21812e-11710232.pdf?src-supplier=Avnet; ComponentLink3URL: https://datasheet.ciiva.com/26947/getdatasheetpartid-442666-26947846.pdf?src-supplier=Verical; ComponentLink3Description: https://datasheet.ciiva.com/26947/getdatasheetpartid-442666-26947846.pdf?src-supplier=Verical; ComponentLink4URL: https://datasheet.ciiva.com/1793/21812e-1793844.pdf?src-supplier=Digi-Key; ComponentLink4Description: https://datasheet.ciiva.com/1793/21812e-1793844.pdf?src-supplier=Digi-Key; Supplier Part Number 1: 20T6022
footprint MSOP-MS8_L (TSOP, 8-Leads, Body 3x3mm, Pitch 0.65mm, IPC High Density)
footprint MSOP-MS8_M (TSOP, 8-Leads, Body 3x3mm, Pitch 0.65mm, IPC Low Density)
footprint MSOP-MS8_N (TSOP, 8-Leads, Body 3x3mm, Pitch 0.65mm, IPC Medium Density)
part A pins: 1 VOUTA (out), 2 VINA- (in), 3 VINA+ (in), 4 VSS (power), 8 VDD (power)
part B pins: 5 VINB+ (in), 6 VINB- (in), 7 VOUTB (out)

## MCR03ERTF1003
designator R?  Resistance: 100kΩ  Max Power Dissipation: 0.1W  (hidden comment: MCR03ERTF1003)
Thick Film Chip Resistor, 0603, 100kΩ, 1%, 100ppm/°C, 0.1W, 50V; Case/Package: 0603; Case Code (Metric): 1608; Min Operating Temperature: -55°C; Height: 0.022inch; Case Code (Imperial): 0603; Packaging: Tape and Reel; Number of Terminations: 2; Package Quantity: 1; Resistor Type: Thick Film; Series: MCR; Temperature Coefficient: 100ppm/°C; Voltage Rating (DC): 50V; Length: 0.063inch; Tolerance: 1%; RoHS Compliant: Yes; Max Operating Temperature: 155°C; Width: 0.031inch
footprint FP-MCR03-IPC_B
footprint FP-MCR03-IPC_C
footprint FP-MCR03-MFG
footprint FP-MCR03-IPC_A
pins: 1, 2

## MCR10ERTF2490
designator R?  Resistance: 249Ω  Max Power Dissipation: 0.13W  (hidden comment: MCR10ERTF2490)
Thick Film Chip Resistor, 0805, 249Ω, 1%, 100ppm/°C, 0.125W, 150V; RoHS Compliant: Yes; Temperature Coefficient: 100ppm/°C; Width: 0.049inch; Resistor Type: Thick Film; Case Code (Metric): 2012; Max Operating Temperature: 155°C; Packaging: Tape and Reel; Voltage Rating (DC): 150V; Min Operating Temperature: -55°C; Case/Package: 0805; Case Code (Imperial): 0805; Tolerance: 1%; Package Quantity: 5000; Number of Terminations: 2; Height: 0.024inch; Length: 0.079inch
footprint FP-MCR10-IPC_A
footprint FP-MCR10-IPC_B
footprint FP-MCR10-IPC_C
footprint FP-MCR10-MFG
pins: 1, 2

## MCR10ERTF4990
designator R?  Resistance: 499Ω  Max Power Dissipation: 0.13W  (hidden comment: MCR10ERTF4990)
Thick Film Chip Resistor, 0805, 499Ω, 1%, 100ppm/°C, 0.125W, 150V; Resistor Type: Thick Film; Tolerance: 1%; Width: 0.049inch; Packaging: Tape and Reel; Temperature Coefficient: 100ppm/°C; Number of Terminations: 2; Voltage Rating (DC): 150V; Height: 0.024inch; Package Quantity: 5000; RoHS Compliant: Yes; Max Operating Temperature: 155°C; Case Code (Metric): 2012; Length: 0.079inch; Min Operating Temperature: -55°C; Case/Package: 0805; Case Code (Imperial): 0805
footprint FP-MCR10-IPC_A
footprint FP-MCR10-IPC_B
footprint FP-MCR10-IPC_C
footprint FP-MCR10-MFG
pins: 1, 2

## MCR18ERTF2490
designator R?  Resistance: 249Ω  Max Power Dissipation: 0.25W  (hidden comment: MCR18ERTF2490)
Res SMD 249 Ohm 1% 1/4W 1206; Manufacturer: Rohm; Temperature Coefficient: 100ppm/°C; Voltage Rating (DC): 200V; Supplier 1: Avnet; Manufacturer Part Number: MCR18ERTF2490; RoHS: Yes; Category: Chip SMD Resistors; Case/Package: 1206; Case Code (Metric): 3216; Case Code (Imperial): 1206; Min Operating Temperature: -55°C; Max Operating Temperature: 155°C; Package Quantity: 5000; Packaging: Tape and Reel; Tolerance: 1%; Resistor Type: Thick Film; Number of Terminations: 2; Length: 0.12inch; Width: 0.061inch; Height: 0.026inch; RoHS Compliant: Yes; ComponentLink1URL: https://media.digikey.com/pdf/Data%20Sheets/Rohm%20PDFs/MCR18_SeriesComparativeSpec.pdf?src-supplier=Digi-Key; ComponentLink1Description: https://media.digikey.com/pdf/Data%20Sheets/Rohm%20PDFs/MCR18_SeriesComparativeSpec.pdf?src-supplier=Digi-Key; Supplier Part Number 1: MCR18ERTF2490
footprint FP-MCR18-IPC_A
footprint FP-MCR18-IPC_B
footprint FP-MCR18-IPC_C
footprint FP-MCR18-MFG
pins: 1, 2

## MGJ2D121503SC
designator U?  Manufacturer Print: MURATA
DC DC CONVERTER 15V -3V 1.7W; Manufacturer Part Number: MGJ2D121503SC; Supplier 1: Mouser; Manufacturer: MURATA; RoHS: Yes; Category: Board Mount Modules; Stock 1: 14; Pricing 1: 1=8.68000, 10=8.68000, 50=8.67000, 100=8.33000, 1000=8.00000, 10000=8.00000 (USD); Supplier Part Number 1: 580-MGJ2D121503SC; Value: N/A; Package: 7-SIP
footprint MGJ2D121509SC
pins: 1 +VIN, 2 -VIN, 5 -VOUT, 6 0V, 7 +VOUT

## MH_M4_P
designator MH?  Size: M4  (hidden comment: *)
footprint MH_M4_P (M4 plated mounting hole)
pins: 1

## MSD7342-682MLC
designator L?  Manfacturer Print: COIL CRAFT
Power inductor, 20% tol, dual-wound SMT, RoHS; Manufacturer_Name: COILCRAFT; Core Material: Ferrite; Max DC Current: 2.1A; DC Resistance (DCR): 70mR; Inductance - Parallel: 6.8uH; Inductance - Series: 27.2uH; Datasheet Link: https://www.coilcraft.com/pdfs/msd7342.pdf; Height: 4.6mm; Manufacturer_Part_Number: MSD7342-682MLC; Supplier 1: Mouser; Manufacturer: Coilcraft; Manufacturer Part Number: MSD7342-682MLC; RoHS: Yes; Category: Fixed Inductors; Stock 1: 83; Pricing 1: 1=2.61000, 10=2.33000, 50=2.10000, 100=1.94000, 1000=1.33000, 10000=1.31000 (USD); Min Operating Temperature: -40°C; Max Operating Temperature: 85°C; Packaging: Tape and Reel; Package Quantity: 250; Tolerance: 20%; Termination: SMD/SMT; Series: MSD7342; Length: 7.5mm; Width: 7.5mm; Lead Free: Contains Lead; RoHS Compliant: Yes; ComponentLink1URL: http://www.mouser.com/ds/2/597/msd7342-220556.pdf?src-supplier=Mouser; ComponentLink1Description: http://www.mouser.com/ds/2/597/msd7342-220556.pdf?src-supplier=Mouser; Supplier Part Number 1: 994-MSD7342-682MLC
footprint MSD7342682MLC
pins: 1, 2, 3, 4